# Altium schematic symbol library XTAL.Schlib: 1 symbol
Pins are listed as number, name and electrical type; pins without a type are passive.

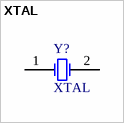
[diagram p0: symbol XTAL]

## XTAL
designator Y?
Crystal Oscillator; Назначение: Кварцевый резонатор; Published: 8-Jun-2000; Revision: July-2002: Re-released for DXP Platform.; Publisher: Altium Limited; Наименование: Кварцевый резонатор
footprint XT_lodka
pins: 1 OSC1, 2 OSC2